# EAGLE library part M07 (library stiftleisten)
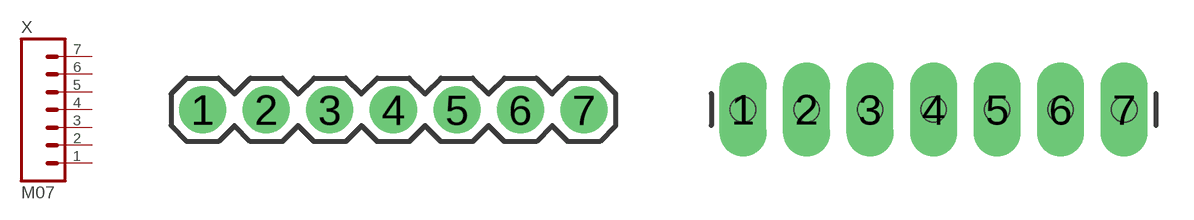
[diagram p1: symbol with the pads of 1X07; footprints 1X07, 1X07_LONGPADS]

Designator prefix X

## M07PAD  [1X07]
1  1  pas
2  2  pas
3  3  pas
4  4  pas
5  5  pas
6  6  pas
7  7  pas

## M07LONGPAD  [1X07_LONGPADS]
Pads as for 1X07

## Footprint 1X07 (pad centres in mm)
drill 1 pad 1.88: 1 0,0; 2 2.54,0; 3 5.08,0; 4 7.62,0; 5 10.16,0; 6 12.7,0; 7 15.24,0

## Footprint 1X07_LONGPADS (pad centres in mm)
drill 1.016 pad 1.88 long: 1 0,0; 2 2.54,0; 3 5.08,0; 4 7.62,0; 5 10.16,0; 6 12.7,0; 7 15.24,0
hole 1.016 at 0,0
hole 1.016 at 2.54,0
hole 1.016 at 5.08,0
hole 1.016 at 7.62,0
hole 1.016 at 10.16,0
hole 1.016 at 12.7,0
hole 1.016 at 15.24,0